# EAGLE library part ATTINY2313 (library IC - uC - AVR)
MICROCONTROLLER 2 Kbytes FLASH 128 bytes SRAM 128 bytes EEPROM USART USI
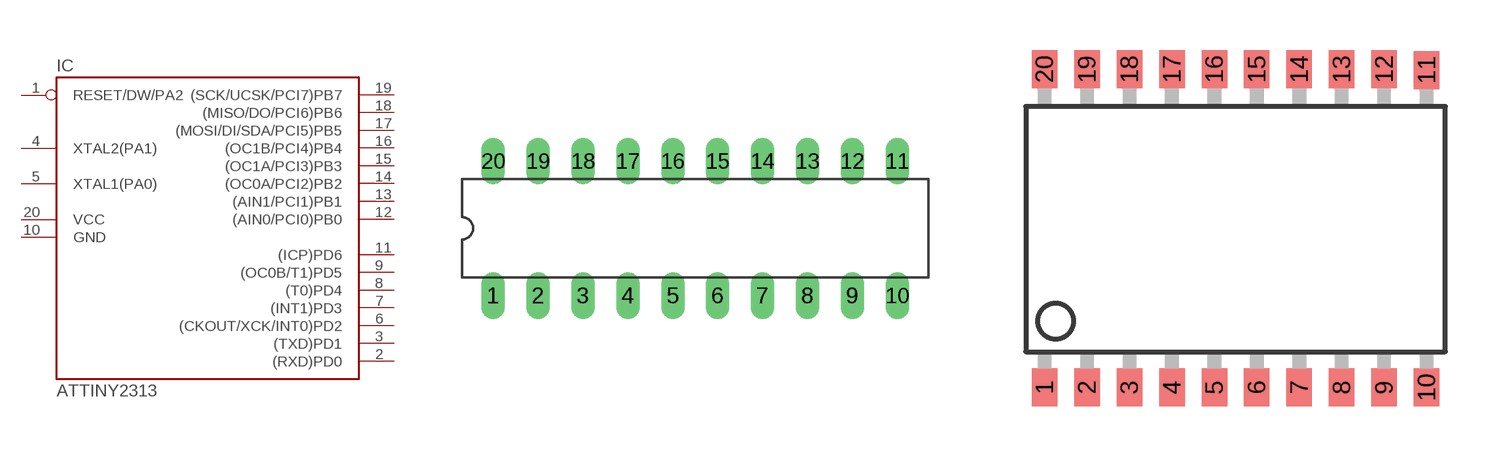
[diagram p61: symbol with the pads of DIL20; footprints DIL20, SO20L]

Designator prefix IC

## ATTINY2313-20P, ATTINY2313V-10P  [DIL20]
1  RESET/DW/PA2
2  (RXD)PD0
3  (TXD)PD1
4  XTAL2(PA1)
5  XTAL1(PA0)
6  (CKOUT/XCK/INT0)PD2
7  (INT1)PD3
8  (T0)PD4
9  (OC0B/T1)PD5
10  GND  pwr
11  (ICP)PD6
12  (AIN0/PCI0)PB0
13  (AIN1/PCI1)PB1
14  (OC0A/PCI2)PB2
15  (OC1A/PCI3)PB3
16  (OC1B/PCI4)PB4
17  (MOSI/DI/SDA/PCI5)PB5
18  (MISO/DO/PCI6)PB6
19  (SCK/UCSK/PCI7)PB7
20  VCC  pwr

## ATTINY2313-20S, ATTINY2313V-10S  [SO20L]
Pads as for DIL20

## ATTINY2313-20M, ATTINY2313V-10M  [MLF20]
1  (TXD)PD1
2  XTAL2(PA1)
3  XTAL1(PA0)
4  (CKOUT/XCK/INT0)PD2
5  (INT1)PD3
6  (T0)PD4
7  (OC0B/T1)PD5
8  GND  pwr
9  (ICP)PD6
10  (AIN0/PCI0)PB0
11  (AIN1/PCI1)PB1
12  (OC0A/PCI2)PB2
13  (OC1A/PCI3)PB3
14  (OC1B/PCI4)PB4
15  (MOSI/DI/SDA/PCI5)PB5
16  (MISO/DO/PCI6)PB6
17  (SCK/UCSK/PCI7)PB7
18  VCC  pwr
19  RESET/DW/PA2
20  (RXD)PD0

## Footprint DIL20 (pad centres in mm)
Dual In Line
drill 0.813 long: 1 -11.43,-3.81; 2 -8.89,-3.81; 3 -6.35,-3.81; 4 -3.81,-3.81; 5 -1.27,-3.81; 6 1.27,-3.81; 7 3.81,-3.81; 8 6.35,-3.81; 9 8.89,-3.81; 10 11.43,-3.81; 11 11.43,3.81; 12 8.89,3.81; 13 6.35,3.81; 14 3.81,3.81; 15 1.27,3.81; 16 -1.27,3.81; 17 -3.81,3.81; 18 -6.35,3.81; 19 -8.89,3.81; 20 -11.43,3.81

## Footprint SO20L (pad centres in mm)
Small Outline Package
smd 0.762 x 1.143: 1 -5.08,-5.131; 2 -3.81,-5.131; 3 -2.54,-5.131; 4 -1.27,-5.131; 5 0,-5.131; 6 1.27,-5.131; 7 2.54,-5.131; 8 3.81,-5.131; 9 5.08,-5.131; 10 6.35,-5.131; 11 6.35,4.369; 12 5.08,4.394; 13 3.81,4.394; 14 2.54,4.394; 15 1.27,4.394; 16 0,4.394; 17 -1.27,4.394; 18 -2.54,4.394; 19 -3.81,4.394; 20 -5.08,4.394

## Footprint MLF20 (pad centres in mm)
HP-VFQFP-N20 Micro Lead Frame package (MLF)
smd 0.9 x 0.35: 1 -2.25,1.3; 2 -2.25,0.65; 3 -2.25,0; 4 -2.25,-0.65; 5 -2.25,-1.3; 11 2.25,-1.3; 12 2.25,-0.65; 13 2.25,0; 14 2.25,0.65; 15 2.25,1.3
smd 0.35 x 0.9: 6 -1.3,-2.25; 7 -0.65,-2.25; 8 0,-2.25; 9 0.65,-2.25; 10 1.3,-2.25; 16 1.3,2.25; 17 0.65,2.25; 18 0,2.25; 19 -0.65,2.25; 20 -1.3,2.25